# Altium footprint library NEC.PcbLib: 1 footprints
Each footprint in its own frame and in the unit in brackets; x right, y up, seen from the top. Pads: shape width x height; smd on the part's side, far side on the other; paste and mask are expansions set on the pad; w line width, h text height; cw(c..) or ccw(c..) is an arc to the next point about the centre after c.
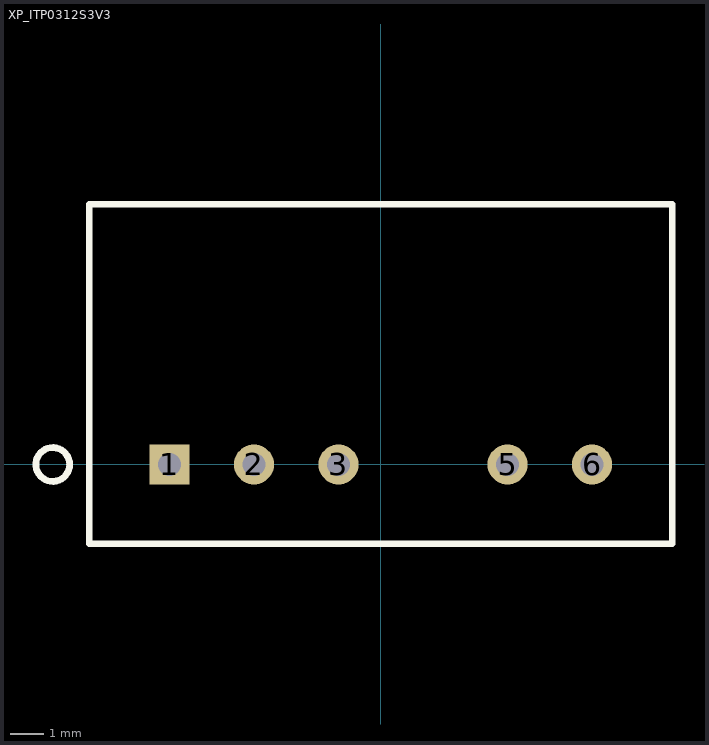
[diagram p0: the footprint, top view; thin cyan lines are the x and y axes]

## XP_ITP0312S3V3 [mm]
height 12.2
pads (5):
  rect 1.2x1.2 hole 0.7: 1(-6.35,0)
  round 1.2 hole 0.7: 2(-3.81,0) 3(-1.27,0) 5(3.81,0) 6(6.35,0)
Top Overlay:
  circle w0.203: c-9.86,0 r0.508
  lines w0.203: -8.76,-2.38 8.76,-2.38 8.76,7.82 -8.76,7.82 -8.76,-2.38
Mechanical 1:
  text "'.Designator'" at 0,0 h1.52
Mechanical 15:
  circle w0.127: c-6.35,0 r0.508
  lines w0.127: -8.76,-2.38 -8.76,7.82 8.76,7.82 8.76,-2.38 -8.76,-2.38
3D body: height 12.2, standoff 0, extent -8.76,-2.38 8.76,7.82